# Altium footprint library General.PcbLib: 39 footprints (part 3 of 3)
Each footprint in its own frame and in the unit in brackets; x right, y up, seen from the top. Pads: shape width x height; smd on the part's side, far side on the other; paste and mask are expansions set on the pad; w line width, h text height; cw(c..) or ccw(c..) is an arc to the next point about the centre after c.
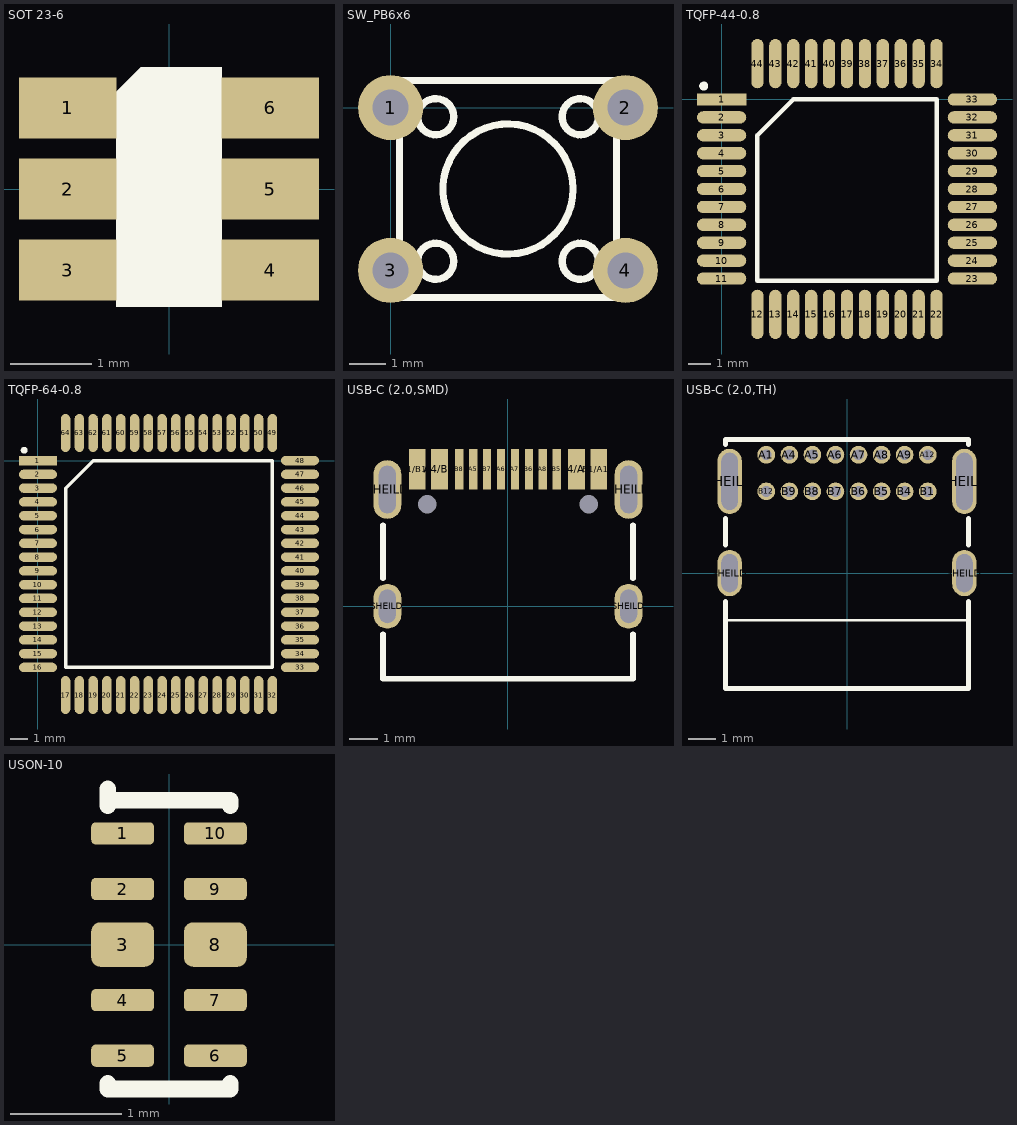
[diagram p2: the footprints below, top view; thin cyan lines are the x and y axes]

## SOT 23-6 [mm] "Small Outline Transistor style package"
height 1
pads (6):
  rect 1.2x0.75 smd mask+0.05: 1(-1.25,1) 2(-1.25,0) 3(-1.25,-1) 4(1.25,-1) 5(1.25,0) 6(1.25,1)
Top Overlay:
  region: -0.35,1.5 0.65,1.5 0.65,-1.45 -0.65,-1.45 -0.65,1.2
3D body "sot-23-6.stp": height 1.05, standoff -0.06, extent -1.422,-1.446 1.422,1.475

## SW_PB6x6 [mm] "6mm square tact switch"
pads (4):
  round 1.8 hole 1: 1(0,0) 2(6.5,0) 3(0,-4.5) 4(6.5,-4.5)
Top Overlay:
  circle w0.2: c1.25,-0.25 r0.5
  circle w0.2: c1.25,-4.25 r0.5
  circle w0.2: c5.25,-4.25 r0.5
  circle w0.2: c5.25,-0.25 r0.5
  circle w0.2: c3.25,-2.25 r1.8
  lines w0.2: 0.25,-5.25 0.25,0.75 6.25,0.75 6.25,-5.25 0.25,-5.25
3D body "tactileswitch-short.STEP": height 4.95, standoff -3.38, extent -0.518,-5.264 7.173,0.743

## TQFP-44-0.8 [mm] "0.8mm Pitch 44pin TQFP"
pads (44):
  rect 2.2x0.55 smd mask+0.05: 1(0,0)
  rrect100% 2.2x0.55 smd mask+0.05: 2(0,-0.8) 3(0,-1.6) 4(0,-2.4) 5(0,-3.2) 6(0,-4) 7(0,-4.8) 8(0,-5.6) 9(0,-6.4) 10(0,-7.2) 11(0,-8) 23(11.2,-8) 24(11.2,-7.2) 25(11.2,-6.4) 26(11.2,-5.6) 27(11.2,-4.8) 28(11.2,-4) 29(11.2,-3.2) 30(11.2,-2.4) 31(11.2,-1.6) 32(11.2,-0.8) 33(11.2,0)
  rrect100% 0.55x2.2 smd mask+0.05: 12(1.6,-9.6) 13(2.4,-9.6) 14(3.2,-9.6) 15(4,-9.6) 16(4.8,-9.6) 17(5.6,-9.6) 18(6.4,-9.6) 19(7.2,-9.6) 20(8,-9.6) 21(8.8,-9.6) 22(9.6,-9.6) 34(9.6,1.6) 35(8.8,1.6) 36(8,1.6) 37(7.2,1.6) 38(6.4,1.6) 39(5.6,1.6) 40(4.8,1.6) 41(4,1.6) 42(3.2,1.6) 43(2.4,1.6) 44(1.6,1.6)
Top Overlay:
  circle w0.2: c-0.8,0.6 r0.1
  lines w0.2: 1.6,-8.1 9.6,-8.1 9.6,0 3.2,0 1.6,-1.6 1.6,-8.1
3D body "ATMEGA32U4-AU--3DModel-STEP-56544.STEP": height 1.18, standoff -0.02, extent -0.4,-10 11.6,2

## TQFP-64-0.8 [mm] "0.8mm Pitch 64pin TQFP"
pads (64):
  rect 2.2x0.55 smd mask+0.05: 1(0,0)
  rrect100% 2.2x0.55 smd mask+0.05: 2(0,-0.8) 3(0,-1.6) 4(0,-2.4) 5(0,-3.2) 6(0,-4) 7(0,-4.8) 8(0,-5.6) 9(0,-6.4) 10(0,-7.2) 11(0,-8) 12(0,-8.8) 13(0,-9.6) 14(0,-10.4) 15(0,-11.2) 16(0,-12) 33(15.2,-12) 34(15.2,-11.2) 35(15.2,-10.4) 36(15.2,-9.6) 37(15.2,-8.8) 38(15.2,-8) 39(15.2,-7.2) 40(15.2,-6.4) 41(15.2,-5.6) 42(15.2,-4.8) 43(15.2,-4) 44(15.2,-3.2) 45(15.2,-2.4) 46(15.2,-1.6) 47(15.2,-0.8) 48(15.2,0)
  rrect100% 0.55x2.2 smd mask+0.05: 17(1.6,-13.6) 18(2.4,-13.6) 19(3.2,-13.6) 20(4,-13.6) 21(4.8,-13.6) 22(5.6,-13.6) 23(6.4,-13.6) 24(7.2,-13.6) 25(8,-13.6) 26(8.8,-13.6) 27(9.6,-13.6) 28(10.4,-13.6) 29(11.2,-13.6) 30(12,-13.6) 31(12.8,-13.6) 32(13.6,-13.6) 49(13.6,1.6) 50(12.8,1.6) 51(12,1.6) 52(11.2,1.6) 53(10.4,1.6) 54(9.6,1.6) 55(8.8,1.6) 56(8,1.6) 57(7.2,1.6) 58(6.4,1.6) 59(5.6,1.6) 60(4.8,1.6) 61(4,1.6) 62(3.2,1.6) 63(2.4,1.6) 64(1.6,1.6)
Top Overlay:
  circle w0.2: c-0.8,0.6 r0.1
  lines w0.2: 1.6,-12 13.6,-12 13.6,0 3.2,0 1.6,-1.6 1.6,-12
3D body "User Library-TQFP64-5.STEP": height 1.1, standoff 0, extent -0.4,-14 15.6,2

## USB-C (2.0,SMD) [mm] "Foortprint for the SMD USB2.0 type C connector TYPE-C-31-M-12"
pads (18):
  rect 0.6x1.45 smd mask+0.05: A1/B12(-3.25,4.9) A4/B9(-2.45,4.9) B1/A12(3.25,4.9) B4/A9(2.45,4.9)
  rect 0.3x1.45 smd mask+0.05: A5(-1.25,4.9) A6(-0.25,4.9) A7(0.25,4.9) A8(1.25,4.9) B5(1.75,4.9) B6(0.75,4.9) B7(-0.75,4.9) B8(-1.75,4.9)
  round 0 hole 0.65 unplated: M(-2.89,3.65) M(2.89,3.65)
  rrect100% 1x1.6 hole 0.6 slot 1.2 at 90 deg mask+0.05: SHEILD(-4.32,0) SHEILD(4.32,0)
  oval 1x2.1 hole 0.6 slot 1.7 at 90 deg mask+0.05: SHEILD(-4.32,4.18) SHEILD(4.32,4.18)
Top Overlay:
  lines w0.2: -4.475,-1 -4.475,-2.6 4.475,-2.6 4.475,-1 ; -4.475,1 -4.475,2.9 ; 4.475,1 4.475,2.9
3D body: height 1.52, standoff -6.6, extent -1.3,3.2 -1.3,3.2
3D body "HRO  TYPE-C-31-M-12.step": height 3.21, standoff -1, extent -4.47,-2.6 4.47,5.3

## USB-C (2.0,TH) [mm] "Foortprint for the TH USB2.0 type C connector USB4085-GF-A"
pads (20):
  round 0.65 hole 0.4 mask+0.05: A1(-2.975,4.36) A4(-2.125,4.36) A5(-1.275,4.36) A6(-0.425,4.36) A7(0.425,4.36) A8(1.275,4.36) A9(2.125,4.36) A12(2.975,4.36) B1(2.975,3.01) B4(2.125,3.01) B5(1.275,3.01) B6(0.425,3.01) B7(-0.425,3.01) B8(-1.275,3.01) B9(-2.125,3.01) B12(-2.975,3.01)
  oval 0.9x1.7 hole 1.4 slot 0.6 at 0 deg mask+0.05: SHEILD(-4.325,0) SHEILD(4.325,0)
  oval 0.9x2.4 hole 2.1 slot 0.6 at 0 deg mask+0.05: SHEILD(-4.325,3.38) SHEILD(4.325,3.38)
Top Overlay:
  lines w0.1: -4.475,-1.74 4.475,-1.74
  lines w0.2: -4.475,-1.05 -4.475,-4.25 4.475,-4.25 4.475,-1.05 ; -4.475,1.05 -4.475,2 ; -4.475,4.75 -4.475,4.92 4.475,4.92 4.475,4.75 ; 4.475,1.05 4.475,2
3D body "USB4085-GF-A.stp": height 3.49, standoff -2.07, extent -4.515,-4.25 4.515,4.92

## USON-10 [mm] "USON-10"
pads (10):
  rrect40% 0.565x0.2 smd mask+0.07: 1(-0.417,1) 2(-0.417,0.5) 4(-0.417,-0.5) 5(-0.417,-1) 6(0.417,-1) 7(0.417,-0.5) 9(0.417,0.5) 10(0.417,1)
  rrect40% 0.565x0.4 smd paste-0.02 mask+0.07: 3(-0.417,0) 8(0.417,0)
Top Overlay:
  lines w0.15: -0.55,-1.25 -0.55,-1.3 0.55,-1.3 0.55,-1.25 ; -0.55,1.25 -0.55,1.3 ; -0.55,1.4 -0.55,1.3 ; 0.55,1.25 0.55,1.3 -0.55,1.3
3D body "User Library-UDFN10.STEP": height 0.53, standoff -0.02, extent -0.5,-1.25 0.51,1.25